# Altium schematic symbol library SM5819PL-TP.SchLib: 1 symbol
Pins are listed as number, name and electrical type; pins without a type are passive.

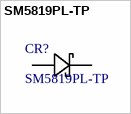
[diagram p0: symbol SM5819PL-TP]

## SM5819PL-TP
designator CR?
Description; Manufacturer_Name: MCC; Copyright: Copyright (C) 2025 Ultra Librarian. All rights reserved.; Manufacturer_Part_Number: SM5819PL-TP
footprint SOD-123FL_MCC
pins: 1, 2